# Altium schematic symbol library INA181A1IDBVT.Schlib: 1 symbol
Pins are listed as number, name and electrical type; pins without a type are passive.

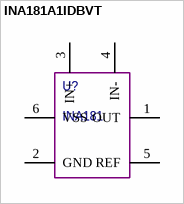
[diagram p0: symbol INA181A1IDBVT]

## INA181A1IDBVT
designator U?, comment INA181
pins: 1 OUT, 2 GND, 3 IN+, 4 IN-, 5 REF, 6 VSS